# Altium schematic symbol library Schlib1.SchLib: 10 symbols
Pins are listed as number, name and electrical type; pins without a type are passive.

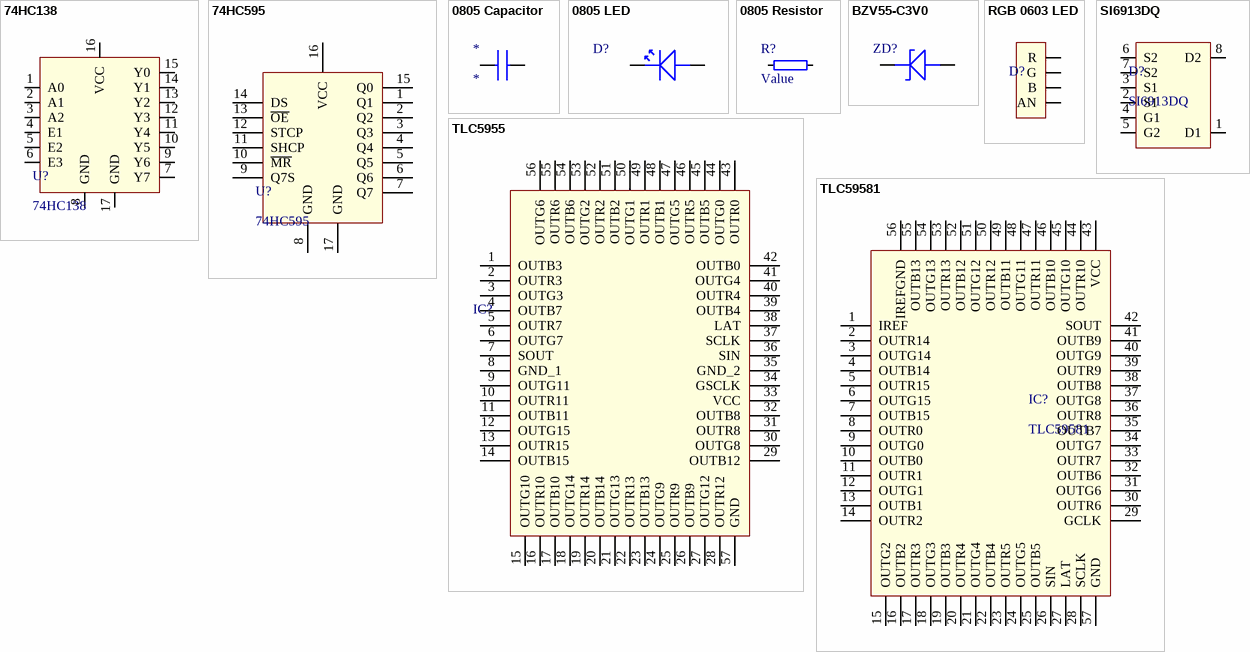
[diagram p0: symbols 74HC138 to TLC59581]

## 74HC138
designator U?
footprint 74HC595
pins: 1 A0, 2 A1, 3 A2, 4 E1, 5 E2, 6 E3, 7 Y7, 8 GND, 9 Y6, 10 Y5, 11 Y4, 12 Y3, 13 Y2, 14 Y1, 15 Y0, 16 VCC, 17 GND

## 74HC595
designator U?
footprint 74HC595
pins: 1 Q1, 2 Q2, 3 Q3, 4 Q4, 5 Q5, 6 Q6, 7 Q7, 8 GND, 9 Q7S, 10 ~{MR}, 11 SHCP, 12 STCP, 13 ~{OE}, 14 DS, 15 Q0, 16 VCC, 17 GND

## 0805 Capacitor
designator *
footprint 0805 Capacitor
pins: 1, 2

## 0805 LED
designator D?
footprint 0805 LED
pins: 1, 2

## 0805 Resistor
designator R?, comment Value
footprint 0805 Resistor
pins: 1, 2

## BZV55-C3V0
designator ZD?, comment 3V  (value not drawn)
footprint Zener Diode
pins: 1, 2

## RGB 0603 LED
designator D?
footprint RGB LED
pins: 1 R, 2 G, 3 B, 4 AN

## SI6913DQ
designator D?
footprint Dual Mosfet
pins: 1 D1, 2 S1, 3 S1, 4 G1, 5 G2, 6 S2, 7 S2, 8 D2

## TLC5955
designator IC?
footprint TLC5955
pins: 1 OUTB3, 2 OUTR3, 3 OUTG3, 4 OUTB7, 5 OUTR7, 6 OUTG7, 7 SOUT, 8 GND_1, 9 OUTG11, 10 OUTR11, 11 OUTB11, 12 OUTG15, 13 OUTR15, 14 OUTB15, 15 OUTG10, 16 OUTR10, 17 OUTB10, 18 OUTG14, 19 OUTR14, 20 OUTB14, 21 OUTG13, 22 OUTR13, 23 OUTB13, 24 OUTG9, 25 OUTR9, 26 OUTB9, 27 OUTG12, 28 OUTR12, 29 OUTB12, 30 OUTG8, 31 OUTR8, 32 OUTB8, 33 VCC, 34 GSCLK, 35 GND_2, 36 SIN, 37 SCLK, 38 LAT, 39 OUTB4, 40 OUTR4, 41 OUTG4, 42 OUTB0, 43 OUTR0, 44 OUTG0, 45 OUTB5, 46 OUTR5, 47 OUTG5, 48 OUTB1, 49 OUTR1, 50 OUTG1, 51 OUTB2, 52 OUTR2, 53 OUTG2, 54 OUTB6, 55 OUTR6, 56 OUTG6, 57 GND

## TLC59581
designator IC?
footprint TLC59581
pins: 1 IREF, 2 OUTR14, 3 OUTG14, 4 OUTB14, 5 OUTR15, 6 OUTG15, 7 OUTB15, 8 OUTR0, 9 OUTG0, 10 OUTB0, 11 OUTR1, 12 OUTG1, 13 OUTB1, 14 OUTR2, 15 OUTG2, 16 OUTB2, 17 OUTR3, 18 OUTG3, 19 OUTB3, 20 OUTR4, 21 OUTG4, 22 OUTB4, 23 OUTR5, 24 OUTG5, 25 OUTB5, 26 SIN, 27 LAT, 28 SCLK, 29 GCLK, 30 OUTR6, 31 OUTG6, 32 OUTB6, 33 OUTR7, 34 OUTG7, 35 OUTB7, 36 OUTR8, 37 OUTG8, 38 OUTB8, 39 OUTR9, 40 OUTG9, 41 OUTB9, 42 SOUT, 43 VCC, 44 OUTR10, 45 OUTG10, 46 OUTB10, 47 OUTR11, 48 OUTG11, 49 OUTB11, 50 OUTR12, 51 OUTG12, 52 OUTB12, 53 OUTR13, 54 OUTG13, 55 OUTB13, 56 IREFGND, 57 GND